# Altium footprint library RES_SMD.PcbLib: 44 footprints (part 1 of 3)
Each footprint in its own frame and in the unit in brackets; x right, y up, seen from the top. Pads: shape width x height; smd on the part's side, far side on the other; paste and mask are expansions set on the pad; w line width, h text height; cw(c..) or ccw(c..) is an arc to the next point about the centre after c.
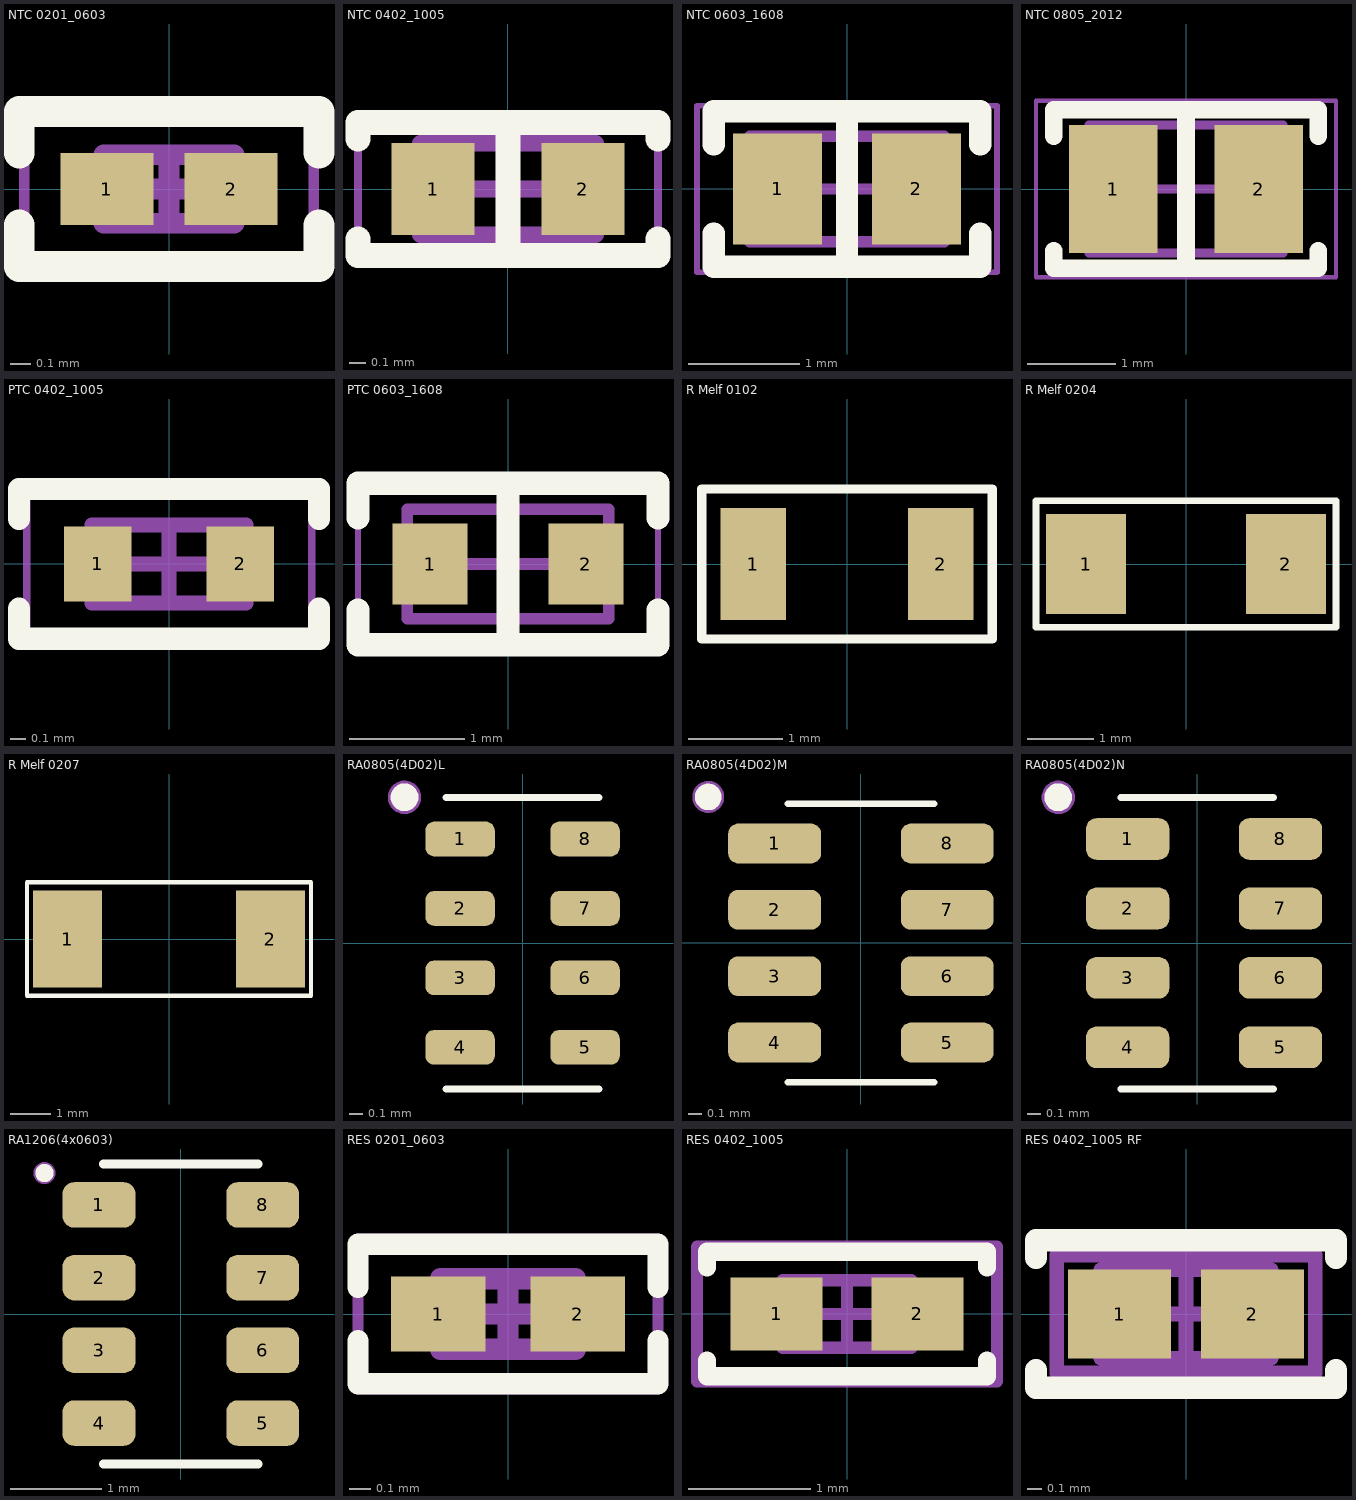
[diagram p0: the footprints below, top view; thin cyan lines are the x and y axes]

## NTC 0201_0603 [mm] "Chip Thermisistor, 2-Leads, Body 0.60x0.30mm, IPC Medium Density"
height 0.33
pads (2):
  rect 0.45x0.35 smd: 1(-0.3,0) 2(0.3,0)
Top Overlay:
  lines w0.15: -0.725,-0.175 -0.725,-0.375 0.725,-0.375 0.725,-0.175 ; -0.725,0.175 -0.725,0.375 0.725,0.375 0.725,0.175
Mechanical 13:
  lines w0.1: -0.315,-0.165 0.315,-0.165 0.315,0.165 -0.315,0.165 -0.315,-0.165
Mechanical 15:
  lines w0.05: -0.7,-0.35 0.7,-0.35 0.7,0.35 -0.7,0.35 -0.7,-0.35
  lines w0.1: -0.165,0 0.165,0 ; 0,-0.165 0,0.165
3D body "NTC 0201.step": height 0.3, standoff 0, extent -0.3,-0.15 0.3,0.15

## NTC 0402_1005 [mm] "Chip Thermistor, 2-Leads, Body 1.00x0.50mm, IPC Medium Density"
height 0.55
pads (2):
  rect 0.5x0.55 smd: 1(-0.45,0) 2(0.45,0)
Top Overlay:
  lines w0.15: -0.9,-0.3 -0.9,-0.4 0,-0.4 ; -0.9,0.3 -0.9,0.4 -0.2,0.4 0.9,0.4 0.9,0.3 ; 0,0.4 0,-0.4 ; 0.9,-0.3 0.9,-0.4 0,-0.4
Mechanical 13:
  lines w0.1: -0.525,-0.275 -0.525,0.275 0.525,0.275 0.525,-0.275 -0.525,-0.275
Mechanical 15:
  lines w0.05: -0.9,-0.45 -0.9,0.45 0.9,0.45 0.9,-0.45 -0.9,-0.45
  lines w0.1: -0.275,0 0.275,0 ; 0,-0.275 0,0.275
3D body "NTC 0402.STEP": height 0.52, standoff 0, extent -0.5,-0.262 0.5,0.262

## NTC 0603_1608 [mm] "NTC Thermistor, 2-Leads, Body 1.60x0.80mm, IPC Medium Density"
height 0.95
pads (2):
  rect 0.8x1 smd: 1(-0.625,0) 2(0.625,0)
Top Overlay:
  lines w0.2: -1.2,-0.4 -1.2,-0.7 1.2,-0.7 1.2,-0.4 ; -1.2,0.4 -1.2,0.7 1.2,0.7 1.2,0.4 ; 0,-0.7 0,0.7
Mechanical 13:
  lines w0.1: -0.875,-0.475 -0.875,0.475 0.875,0.475 0.875,-0.475 -0.875,-0.475
Mechanical 15:
  lines w0.05: -1.35,-0.75 -1.35,0.75 1.35,0.75 1.35,-0.75 -1.35,-0.75
  lines w0.1: -0.475,0 0.475,0 ; 0,-0.475 0,0.475
3D body "NTC 0603.STEP": height 0.82, standoff 0, extent -0.8,-0.412 0.8,0.412

## NTC 0805_2012 [mm] "Chip Thermistor, 2-Leads, Body 2.00x1.25mm, IPC Medium Density"
height 1
pads (2):
  rect 1x1.45 smd: 1(-0.825,0) 2(0.825,0)
Top Overlay:
  lines w0.2: -1.5,-0.7 -1.5,-0.9 1.5,-0.9 1.5,-0.7 ; -1.5,0.6 -1.5,0.9 1.5,0.9 1.5,0.6 ; 0,-0.9 0,0.9
Mechanical 13:
  lines w0.1: -1.1,-0.725 -1.1,0.725 1.1,0.725 1.1,-0.725 -1.1,-0.725
Mechanical 15:
  lines w0.05: -1.7,-1 -1.7,1 1.7,1 1.7,-1 -1.7,-1
  lines w0.1: -0.5,0 0.5,0 ; 0,-0.5 0,0.5
3D body "NTC 0805.STEP": height 1.27, standoff 0, extent -1,-0.637 1,0.637

## PTC 0402_1005 [mm] "Chip Thermistor, 2-Leads, Body 1.02x0.51mm, IPC Medium Density"
height 0.52
pads (2):
  rect 0.45x0.5 smd: 1(-0.475,0) 2(0.475,0)
Top Overlay:
  lines w0.15: -1,-0.3 -1,-0.5 1,-0.5 1,-0.3 ; -1,0.3 -1,0.5 1,0.5 1,0.3
Mechanical 13:
  lines w0.1: -0.515,-0.26 -0.515,0.26 0.515,0.26 0.515,-0.26 -0.515,-0.26
Mechanical 15:
  lines w0.05: -0.95,-0.5 -0.95,0.5 0.95,0.5 0.95,-0.5 -0.95,-0.5
  lines w0.1: -0.26,0 0.26,0 ; 0,-0.26 0,0.26
3D body "PTC 0402.step": height 0.52, standoff 0, extent -0.5,-0.262 0.5,0.262

## PTC 0603_1608 [mm] "Chip Thermistor, 2-Leads, Body 1.60x0.80mm, IPC Medium Density"
height 0.89
pads (2):
  rect 0.65x0.7 smd: 1(-0.675,0) 2(0.675,0)
Top Overlay:
  lines w0.2: -1.3,-0.4 -1.3,-0.7 1.3,-0.7 1.3,-0.4 ; -1.3,0.4 -1.3,0.7 1.3,0.7 1.3,0.4 ; 0,-0.7 0,0.7
Mechanical 13:
  lines w0.1: -0.875,-0.475 -0.875,0.475 0.875,0.475 0.875,-0.475 -0.875,-0.475
Mechanical 15:
  lines w0.05: -1.3,-0.7 -1.3,0.7 1.3,0.7 1.3,-0.7 -1.3,-0.7
  lines w0.1: -0.475,0 0.475,0 ; 0,-0.475 0,0.475
3D body "PTC 0603.step": height 0.82, standoff 0, extent -0.8,-0.412 0.8,0.412

## R Melf 0102 [mm]
height 1.1
pads (2):
  rect 0.7x1.2 smd: 1(-1,0) 2(1,0)
Top Overlay:
  lines w0.1: -1.55,-0.8 -1.55,0.8 1.55,0.8 1.55,-0.8 -1.55,-0.8
3D body "Melf-0102.STEP": height 1.25, standoff 0.15, extent -1,-0.55 1,0.55

## R Melf 0204 [mm]
height 0.55
pads (2):
  rect 1.2x1.5 smd: 1(-1.5,0) 2(1.5,0)
Top Overlay:
  lines w0.1: -2.25,-0.95 -2.25,0.95 2.25,0.95 2.25,-0.95 -2.25,-0.95
3D body "Melf-0204.STEP": height 1.4, standoff 0, extent -1.7,-0.7 1.7,0.7

## R Melf 0207 [mm] "Metal Electrode Face (MELF) Diode; Body 5 x 2.5 mm (LxDia)"
height 2.5
pads (2):
  rect 1.7x2.4 smd: 1(-2.5,0) 2(2.5,0)
Top Overlay:
  lines w0.1: -3.5,-1.4 3.5,-1.4 3.5,1.4 -3.5,1.4 -3.5,-1.4
3D body "Melf-0207.STEP": height 2.2, standoff 0, extent -2.65,-1.1 2.65,1.1

## RA0805(4D02)L [mm] "Chip Array, Flat, 8-Leads, Pitch 0.50mm,  Body 2.00x1.00mm,  IPC High Density"
height 0.45
pads (8):
  rrect50% 0.5x0.25 smd: 1(-0.45,0.75) 2(-0.45,0.25) 3(-0.45,-0.25) 4(-0.45,-0.75) 5(0.45,-0.75) 6(0.45,-0.25) 7(0.45,0.25) 8(0.45,0.75)
Top Overlay:
  circle w0.1: c-0.85,1.05 r0.05
  lines w0.05: -0.55,-1.05 0.55,-1.05 ; -0.55,1.05 0.55,1.05
Mechanical 1:
  circle w0.12: c-0.85,1.05 r0.06
3D body "RA 741C083 (2x1mm).STEP": height 0.35, standoff -0.03, extent -0.502,-1 0.502,1

## RA0805(4D02)M [mm] "Chip Array, Flat, 8-Leads, Pitch 0.50mm,  Body 2.00x1.00mm,  IPC Medium Density"
height 0.45
pads (8):
  rrect50% 0.7x0.3 smd: 1(-0.65,0.75) 2(-0.65,0.25) 3(-0.65,-0.25) 4(-0.65,-0.75) 5(0.65,-0.75) 6(0.65,-0.25) 7(0.65,0.25) 8(0.65,0.75)
Top Overlay:
  circle w0.1: c-1.15,1.1 r0.05
  lines w0.05: -0.55,-1.05 0.55,-1.05 ; -0.55,1.05 0.55,1.05
Mechanical 1:
  circle w0.12: c-1.15,1.1 r0.06
3D body "RA 741C083 (2x1mm).STEP": height 0.35, standoff -0.03, extent -0.502,-1 0.502,1

## RA0805(4D02)N [mm] "Chip Array, Flat, 8-Leads, Pitch 0.50mm,  Body 2.00x1.00mm,  IPC Medium Density"
height 0.45
pads (8):
  rrect50% 0.6x0.3 smd: 1(-0.5,0.75) 2(-0.5,0.25) 3(-0.5,-0.25) 4(-0.5,-0.75) 5(0.6,-0.75) 6(0.6,-0.25) 7(0.6,0.25) 8(0.6,0.75)
Top Overlay:
  circle w0.1: c-1,1.05 r0.05
  lines w0.05: -0.55,-1.05 0.55,-1.05 ; -0.55,1.05 0.55,1.05
Mechanical 1:
  circle w0.12: c-1,1.05 r0.06
3D body "RA 741C083 (2x1mm).STEP": height 0.35, standoff -0.03, extent -0.502,-1 0.502,1

## RA1206(4x0603) [mm]
pads (8):
  rrect50% 0.8x0.5 smd: 1(-0.9,1.2) 2(-0.9,0.4) 3(-0.9,-0.4) 4(-0.9,-1.2) 5(0.9,-1.2) 6(0.9,-0.4) 7(0.9,0.4) 8(0.9,1.2)
Top Overlay:
  circle w0.1: c-1.5,1.55 r0.05
  lines w0.1: -0.85,-1.65 0.85,-1.65 ; -0.85,1.65 0.85,1.65
Mechanical 1:
  circle w0.12: c-1.5,1.55 r0.06
3D body "SMD R1206-4Way-Var2-1.STEP": height 0.5, standoff 0, extent -0.8,-1.6 0.8,1.6

## RES 0201_0603 [mm] "Chip Resistor, 2-Leads, Body 0.60x0.30mm, IPC Medium Density"
height 0.26
pads (2):
  rect 0.44x0.35 smd: 1(-0.325,0) 2(0.325,0)
Top Overlay:
  lines w0.1: -0.7,-0.125 -0.7,-0.325 0.7,-0.325 0.7,-0.125 ; -0.7,0.125 -0.7,0.325 0.7,0.325 0.7,0.125
Mechanical 13:
  lines w0.1: -0.315,-0.165 -0.315,0.165 0.315,0.165 0.315,-0.165 -0.315,-0.165
Mechanical 15:
  lines w0.05: -0.7,-0.35 -0.7,0.35 0.7,0.35 0.7,-0.35 -0.7,-0.35
  lines w0.1: -0.165,0 0.165,0 ; 0,-0.165 0,0.165
3D body "RES 0201.STEP": height 0.21, standoff -0.01, extent -0.3,-0.15 0.3,0.15

## RES 0402_1005 [mm] "Chip Resistor, 2-Leads, Body 1.0x0.5mm, IPC Medium Density"
height 0.4
pads (2):
  rect 0.75x0.6 smd: 1(-0.575,0) 2(0.575,0)
Top Overlay:
  lines w0.15: -1.143,-0.381 -1.143,-0.508 1.143,-0.508 1.143,-0.381 ; -1.143,0.381 -1.143,0.508 1.143,0.508 1.143,0.381
Mechanical 13:
  lines w0.1: -0.525,-0.275 0.525,-0.275 0.525,0.275 -0.525,0.275 -0.525,-0.275
Mechanical 15:
  lines w0.1: -0.275,0 0.275,0 ; 0,-0.275 0,0.275 ; -1.225,-0.55 1.225,-0.55 1.225,0.55 -1.225,0.55 -1.225,-0.55
3D body "0402 resistor.STEP": height 0.35, standoff 0, extent -0.5,-0.25 0.5,0.25

## RES 0402_1005 RF [mm] "Chip Resistor, 2-Leads, Body 1.0x0.5mm, IPC High Density"
height 0.4
pads (2):
  rect 0.7x0.6 smd: 1(-0.45,0) 2(0.45,0)
Top Overlay:
  lines w0.15: -1.016,-0.381 -1.016,-0.5 1.016,-0.5 1.016,-0.381 ; -1.016,0.381 -1.016,0.5 1.016,0.5 1.016,0.381
Mechanical 13:
  lines w0.1: -0.575,-0.3 0.575,-0.3 0.575,0.3 -0.575,0.3 -0.575,-0.3
Mechanical 15:
  lines w0.1: -0.3,0 0.3,0 ; 0,-0.3 0,0.3 ; -0.875,-0.4 0.875,-0.4 0.875,0.4 -0.875,0.4 -0.875,-0.4
3D body "0402 resistor.STEP": height 0.35, standoff 0, extent -0.5,-0.25 0.5,0.25